# Altium schematic symbol library clock_controller.SchLib: 6 symbols
Pins are listed as number, name and electrical type; pins without a type are passive.

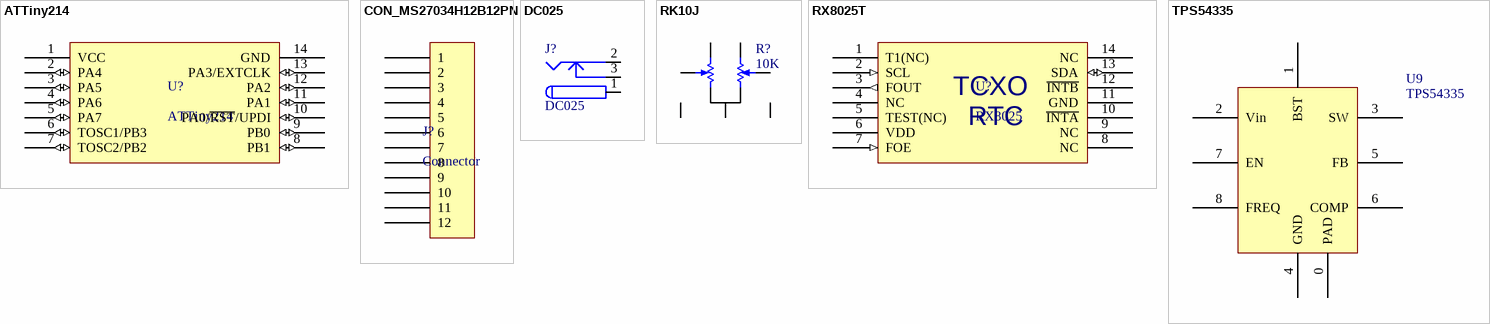
[diagram p0: symbols ATTiny214 to TPS54335]

## ATTiny214
designator U?
footprint SO-14
pins: 1 VCC (power), 2 PA4 (io), 3 PA5 (io), 4 PA6 (io), 5 PA7 (io), 6 TOSC1/PB3 (io), 7 TOSC2/PB2 (io), 8 PB1 (io), 9 PB0 (io), 10 PA0/~{RST}/UPDI (io), 11 PA1 (io), 12 PA2 (io), 13 PA3/EXTCLK (io), 14 GND (power)

## CON_MS27034H12B12PN
designator J?, comment Connector
footprint MS27034H12B12PN
pins: 1, 2, 3, 4, 5, 6, 7, 8, 9, 10, 11, 12

## DC025
designator J?
CON,PWR2.5 DC025M 2.1mmо; Part Number-IAC: 6Y49A0001501; Part Name: DC-025M; General: 2.1mm
signal-integrity model Connector
footprint POWERJACK_5.5mm
pins: 1 (power), 1A (power), 1B (power), 2 (power), 2A (power), 2B (power), 3 (power), 3A (power), 3B (power)

## RK10J
designator R?, comment 10K
Square Trimming Potentiometer; Published: 17-Dec-2003; DatasheetVersion: Oct-2003; PackageReference: POT4MM-2; Publisher: Altium Limited; PackageDescription: Square Trimming Potentiometer; ComponentLink1Description: Manufacturer Link; ComponentLink1URL: http://bourns.com/2/search.html
footprint POT4MM-2 (Square Trimming Potentiometer)
footprint RK10J
pins: 1 - "1", 2, 3, 4, 5, 6 - "6", 7 - "7"
1 alternate drawing of the same symbol

## RX8025T
designator U?, comment RX8025
footprint SO-14
pins: 1 T1(NC), 2 SCL (in), 3 FOUT (out), 4 NC, 5 TEST(NC), 6 VDD (power), 7 FOE (in), 8 NC, 9 NC, 10 ~{INTA} (oc), 11 GND (power), 12 ~{INTB} (oc), 13 SDA (io), 14 NC
text: TCXO; RTC

## TPS54335
designator U9
footprint SO-8
footprint SO-8-Thermal
pins: 0 PAD, 1 BST, 2 Vin, 3 SW, 4 GND, 5 FB, 6 COMP, 7 EN, 8 FREQ